# Altium footprint library ProximityDetector.PcbLib: 5 footprints
Each footprint in its own frame and in the unit in brackets; x right, y up, seen from the top. Pads: shape width x height; smd on the part's side, far side on the other; paste and mask are expansions set on the pad; w line width, h text height; cw(c..) or ccw(c..) is an arc to the next point about the centre after c.
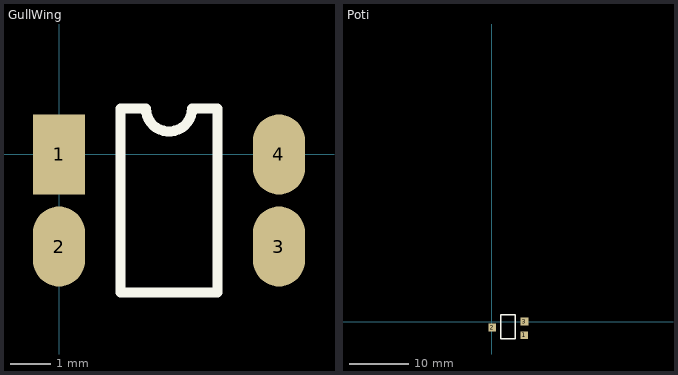
[diagram p0: the footprints below, top view; thin cyan lines are the x and y axes]

## GullWing [mm]
pads (4):
  rect 1.3x2 smd: 1(0,0)
  oval 1.3x2 smd: 2(0,-2.3) 3(5.5,-2.3) 4(5.5,0)
Top Overlay:
  lines w0.254: 1.539,-3.45 3.961,-3.45 3.961,1.15 3.325,1.15 cw(c2.75,1.15) 2.175,1.15 1.539,1.15 1.539,-3.45

## PCBComponent_1 [mm]

## PCBComponent_1 - duplicate [mm]

## PCBComponent_1 - duplicate1 [mm]

## Poti [mm]
pads (3):
  rect 1.3x1.3 smd: 1(5.461,-2.286) 2(0.127,-1.016) 3(5.5,0)
Top Overlay:
  lines w0.254: 1.539,-2.921 1.539,1.15 2.175,1.15 ccw(c2.75,24.27) 3.325,1.15 3.961,1.15 3.961,-2.921 1.539,-2.921